# Altium footprint library YaoPCB.PCBLIB: 415 footprints (part 16 of 26)
Each footprint in its own frame and in the unit in brackets; x right, y up, seen from the top. Pads: shape width x height; smd on the part's side, far side on the other; paste and mask are expansions set on the pad; w line width, h text height; cw(c..) or ccw(c..) is an arc to the next point about the centre after c.
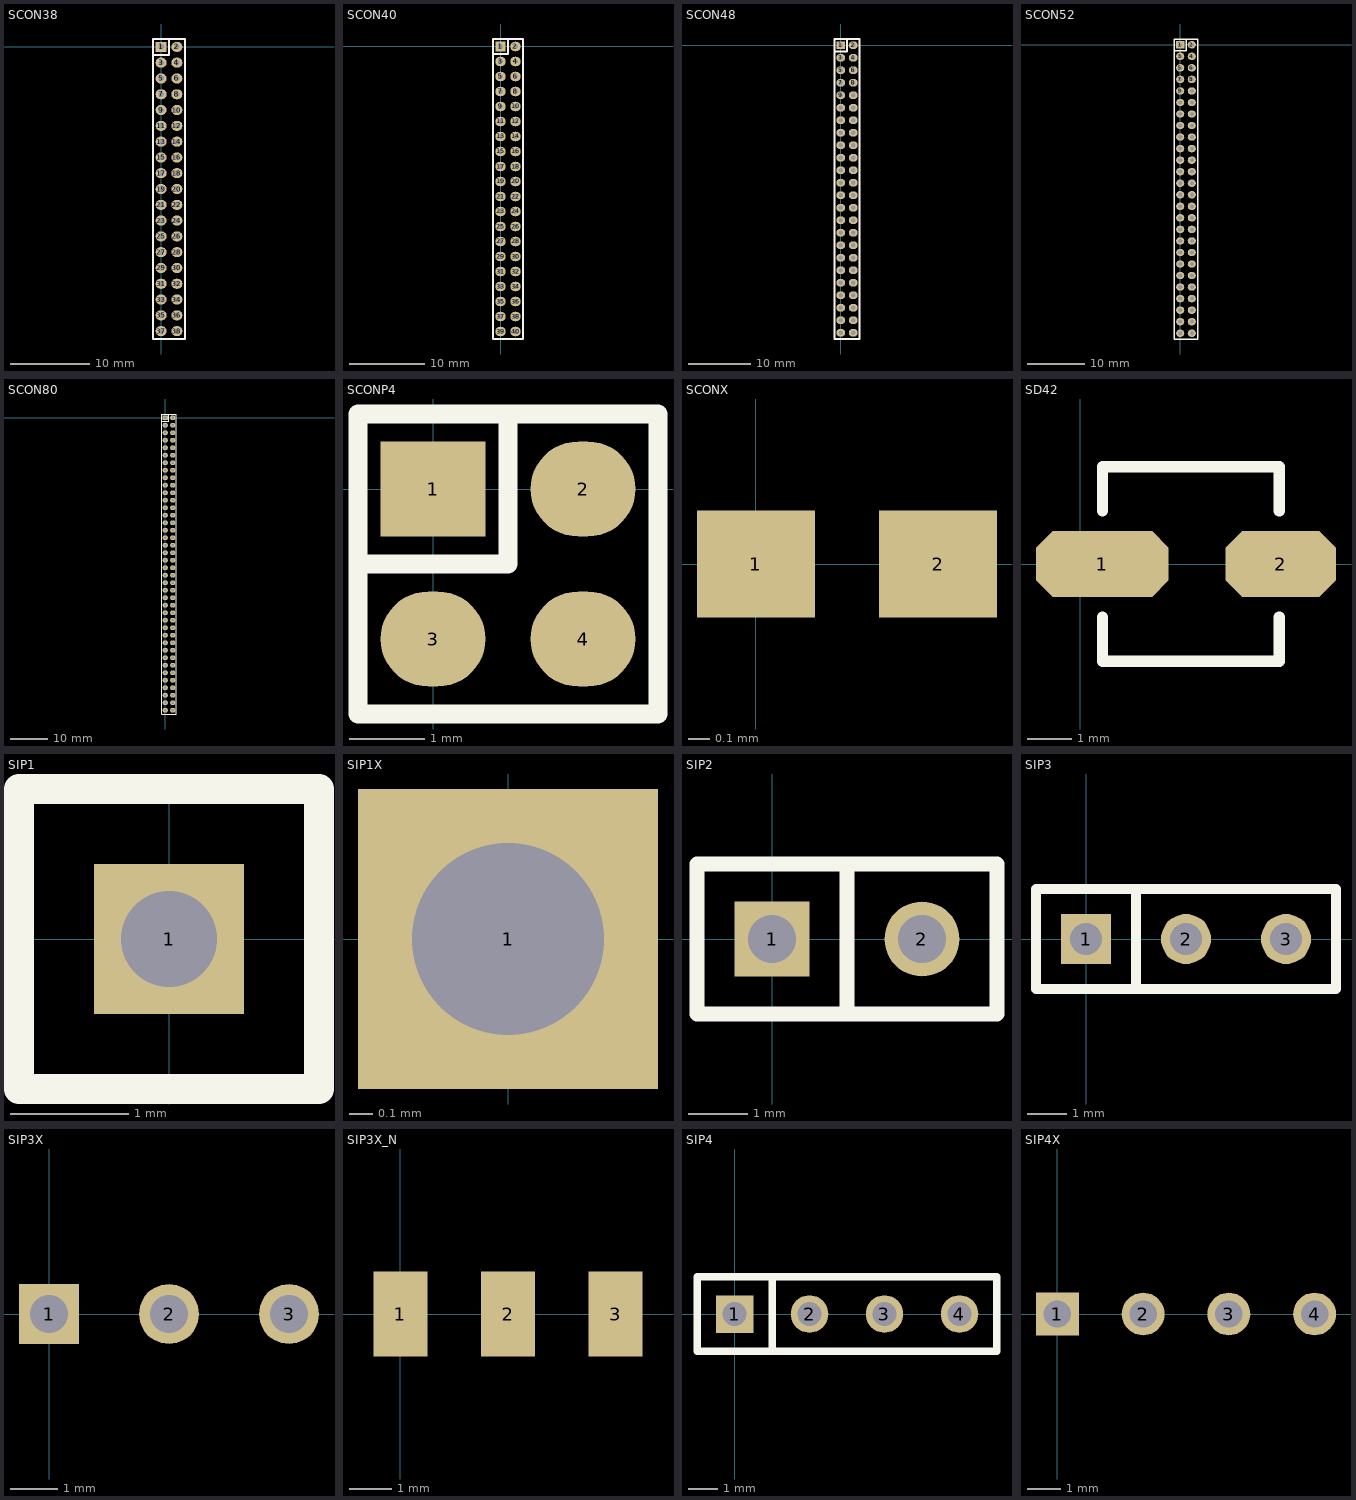
[diagram p15: the footprints below, top view; thin cyan lines are the x and y axes]

## SCON38 [mm]
pads (38):
  rect 1.397x1.27 hole 0.7: 1(0,0)
  oval 1.397x1.27 hole 0.7: 2(2,0) 3(0,-2) 4(2,-2) 5(0,-4) 6(2,-4) 7(0,-6) 8(2,-6) 9(0,-8) 10(2,-8) 11(0,-10) 12(2,-10) 13(0,-12) 14(2,-12) 15(0,-14) 16(2,-14) 17(0,-16) 18(2,-16) 19(0,-18) 20(2,-18) 21(0,-20) 22(2,-20) 23(0,-22) 24(2,-22) 25(0,-24) 26(2,-24) 27(0,-26) 28(2,-26) 29(0,-28) 30(2,-28) 31(0,-30) 32(2,-30) 33(0,-32) 34(2,-32) 35(0,-34) 36(2,-34) 37(0,-36) 38(2,-36)
TopOverlay:
  lines w0.254: -1,-1 1,-1 1,1 ; -1,-37 -1,1 3,1 3,-37 -1,-37

## SCON40 [mm]
pads (40):
  rect 1.397x1.27 hole 0.7: 1(0,0)
  oval 1.397x1.27 hole 0.7: 2(2,0) 3(0,-2) 4(2,-2) 5(0,-4) 6(2,-4) 7(0,-6) 8(2,-6) 9(0,-8) 10(2,-8) 11(0,-10) 12(2,-10) 13(0,-12) 14(2,-12) 15(0,-14) 16(2,-14) 17(0,-16) 18(2,-16) 19(0,-18) 20(2,-18) 21(0,-20) 22(2,-20) 23(0,-22) 24(2,-22) 25(0,-24) 26(2,-24) 27(0,-26) 28(2,-26) 29(0,-28) 30(2,-28) 31(0,-30) 32(2,-30) 33(0,-32) 34(2,-32) 35(0,-34) 36(2,-34) 37(0,-36) 38(2,-36) 39(0,-38) 40(2,-38)
TopOverlay:
  lines w0.254: -1,-1 1,-1 1,1 ; -1,-39 -1,1 3,1 3,-39 -1,-39

## SCON48 [mm]
pads (48):
  rect 1.397x1.27 hole 0.7: 1(0,0)
  oval 1.397x1.27 hole 0.7: 2(2,0) 3(0,-2) 4(2,-2) 5(0,-4) 6(2,-4) 7(0,-6) 8(2,-6) 9(0,-8) 10(2,-8) 11(0,-10) 12(2,-10) 13(0,-12) 14(2,-12) 15(0,-14) 16(2,-14) 17(0,-16) 18(2,-16) 19(0,-18) 20(2,-18) 21(0,-20) 22(2,-20) 23(0,-22) 24(2,-22) 25(0,-24) 26(2,-24) 27(0,-26) 28(2,-26) 29(0,-28) 30(2,-28) 31(0,-30) 32(2,-30) 33(0,-32) 34(2,-32) 35(0,-34) 36(2,-34) 37(0,-36) 38(2,-36) 39(0,-38) 40(2,-38) 41(0,-40) 42(2,-40) 43(0,-42) 44(2,-42) 45(0,-44) 46(2,-44) 47(0,-46) 48(2,-46)
TopOverlay:
  lines w0.254: -1,-1 1,-1 1,1 ; -1,-47 -1,1 3,1 3,-47 -1,-47

## SCON52 [mm]
pads (52):
  rect 1.397x1.27 hole 0.7: 1(0,0)
  oval 1.397x1.27 hole 0.7: 2(2,0) 3(0,-2) 4(2,-2) 5(0,-4) 6(2,-4) 7(0,-6) 8(2,-6) 9(0,-8) 10(2,-8) 11(0,-10) 12(2,-10) 13(0,-12) 14(2,-12) 15(0,-14) 16(2,-14) 17(0,-16) 18(2,-16) 19(0,-18) 20(2,-18) 21(0,-20) 22(2,-20) 23(0,-22) 24(2,-22) 25(0,-24) 26(2,-24) 27(0,-26) 28(2,-26) 29(0,-28) 30(2,-28) 31(0,-30) 32(2,-30) 33(0,-32) 34(2,-32) 35(0,-34) 36(2,-34) 37(0,-36) 38(2,-36) 39(0,-38) 40(2,-38) 41(0,-40) 42(2,-40) 43(0,-42) 44(2,-42) 45(0,-44) 46(2,-44) 47(0,-46) 48(2,-46) 49(0,-48) 50(2,-48) 51(0,-50) 52(2,-50)
TopOverlay:
  lines w0.254: -1,-1 1,-1 1,1 ; -1,-51 3,-51 3,1 -1,1 -1,-51

## SCON80 [mm]
pads (80):
  rect 1.397x1.27 hole 0.7: 1(0,0)
  oval 1.397x1.27 hole 0.7: 2(2,0) 3(0,-2) 4(2,-2) 5(0,-4) 6(2,-4) 7(0,-6) 8(2,-6) 9(0,-8) 10(2,-8) 11(0,-10) 12(2,-10) 13(0,-12) 14(2,-12) 15(0,-14) 16(2,-14) 17(0,-16) 18(2,-16) 19(0,-18) 20(2,-18) 21(0,-20) 22(2,-20) 23(0,-22) 24(2,-22) 25(0,-24) 26(2,-24) 27(0,-26) 28(2,-26) 29(0,-28) 30(2,-28) 31(0,-30) 32(2,-30) 33(0,-32) 34(2,-32) 35(0,-34) 36(2,-34) 37(0,-36) 38(2,-36) 39(0,-38) 40(2,-38) 41(0,-40) 42(2,-40) 43(0,-42) 44(2,-42) 45(0,-44) 46(2,-44) 47(0,-46) 48(2,-46) 49(0,-48) 50(2,-48) 51(0,-50) 52(2,-50) 53(0,-52) 54(2,-52) 55(0,-54) 56(2,-54) 57(0,-56) 58(2,-56) 59(0,-58) 60(2,-58) 61(0,-60) 62(2,-60) 63(0,-62) 64(2,-62) 65(0,-64) 66(2,-64) 67(0,-66) 68(2,-66) 69(0,-68) 70(2,-68) 71(0,-70) 72(2,-70) 73(0,-72) 74(2,-72) 75(0,-74) 76(2,-74) 77(0,-76) 78(2,-76) 79(0,-78) 80(2,-78)
TopOverlay:
  lines w0.254: -1,-1 1,-1 1,1 ; -1,-79 -1,1 3,1 3,-79 -1,-79

## SCONP4 [mm]
pads (4):
  rect 1.397x1.27 smd: 1(0,0)
  oval 1.397x1.27 smd: 2(2,0) 3(0,-2) 4(2,-2)
TopOverlay:
  lines w0.254: -1,-1 1,-1 1,1 ; -1,-3 3,-3 3,1 -1,1 -1,-3

## SCONX [mil]
pads (2):
  rect 22x20 smd: 1(0,0) 2(34,0)

## SD42 [mm]
pads (2):
  oct 3x1.5 smd: 1(0.5,0)
  oct 2.5x1.5 smd: 2(4.53,0)
TopOverlay:
  lines w0.254: 0.5,-1.2 0.5,-2.2 4.5,-2.2 4.5,-1.2 ; 0.5,1.2 0.5,2.2 4.5,2.2 4.5,1.2

## SIP1 [mil]
pads (1):
  rect 50x50 hole 32: 1(0,0)
TopOverlay:
  lines w10: -50,-50 50,-50 50,50 -50,50 -50,-50

## SIP1X [mil]
pads (1):
  rect 50x50 hole 32: 1(0,0)

## SIP2 [mil]
pads (2):
  rect 50x50 hole 32: 1(0,0)
  round 50 hole 32: 2(100,0)
TopOverlay:
  lines w10: 50,-50 50,50 ; -50,-50 -50,50 150,50 150,-50 -50,-50

## SIP3 [mil]
pads (3):
  rect 50x50 hole 32: 1(0,0)
  round 50 hole 32: 2(100,0) 3(200,0)
TopOverlay:
  lines w10: 50,-50 50,50 ; -50,-50 250,-50 250,50 -50,50 -50,-50

## SIP3X [mil]
pads (3):
  rect 50x50 hole 32: 1(0,0)
  round 50 hole 32: 2(100,0) 3(200,0)

## SIP3X_N [mm]
pads (3):
  rect 1.27x2 smd: 1(0,0) 2(2.54,0) 3(5.08,0)

## SIP4 [mil]
pads (4):
  rect 50x50 hole 32: 1(0,0)
  round 50 hole 32: 2(100,0) 3(200,0) 4(300,0)
TopOverlay:
  lines w10: 50,-50 50,50 ; -50,-50 350,-50 350,50 -50,50 -50,-50

## SIP4X [mil]
pads (4):
  rect 50x50 hole 32: 1(0,0)
  round 50 hole 32: 2(100,0) 3(200,0) 4(300,0)